# Altium schematic symbol library kmilo17pet-NSC_Interface.SchLib: 1433 symbols (part 8 of 51)
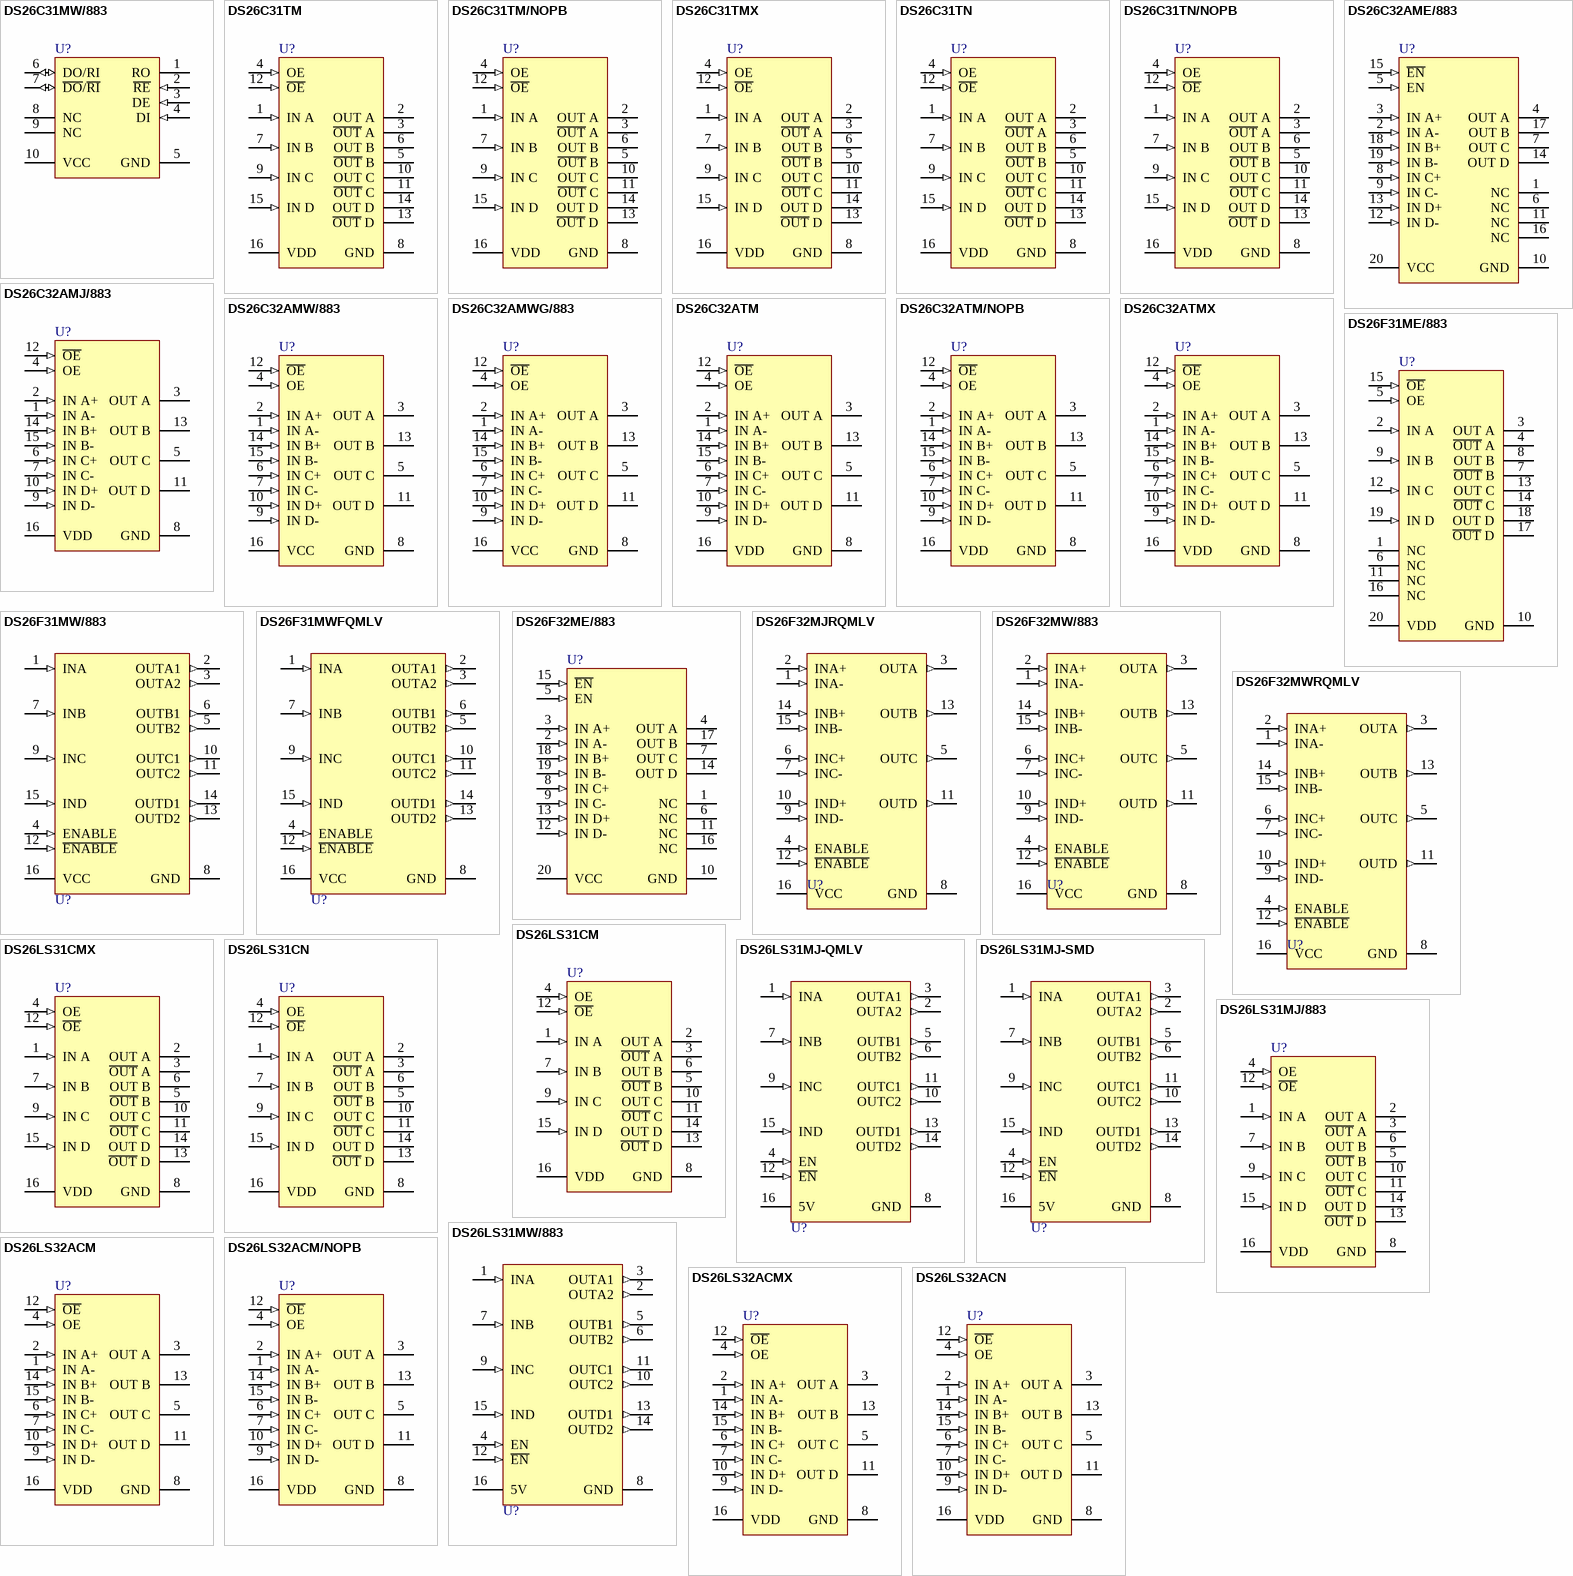
[diagram p131: symbols DS26C31MW/883 to DS26LS32ACN]

## DS26C31TMX
designator U?
CMOS Quad Tri-State Differential Line Drivers, 16-pin Narrow SOIC; PartNumber: DS26C31TMX; Manufacturer: National Semiconductor; PackageTopMarking: NSUZXYTTE#*DS26C31TM; PowerWise: N; CompType: Interface IC; High-Reliability: Y; DatasheetVersion: Jun-1998; PackageVersion: revJ, Aug-1995; PackageReference: M16A; PackageDescription: Molded Package, SO, .150in Wide, 16 Lead; RoHS: N; PinCount: 16; Code_JEDEC: MS-012-AC; Code_IPC: SOIC127P600-16; ComponentLink1Description: Manufacturer URL; ComponentLink1URL: http://www.national.com/; ComponentLink2Description: DS26C31T Datasheet; ComponentLink2URL: http://www.national.com/ds/DS/DS26C31T.pdf; ComponentLink3Description: DS26C31T Web Page; ComponentLink3URL: http://www.national.com/pf/DS/DS26C31T.html; ComponentLink4Description: M16A Package Page; ComponentLink4URL: http://www.national.com/packaging/folders/m16a.html
footprint M16A_N (SOIC, 16-Leads, Body 9.9x3.9mm, Pitch 1.27mm, IPC Medium Density)
footprint M16A_L (SOIC, 16-Leads, Body 9.9x3.9mm, Pitch 1.27mm, IPC High Density)
footprint M16A_M (SOIC, 16-Leads, Body 9.9x3.9mm, Pitch 1.27mm, IPC Low Density)
pins: 1 IN A (in), 2 OUT A (hiz), 3 ~{OUT} A (hiz), 4 OE (in), 5 ~{OUT} B (hiz), 6 OUT B (hiz), 7 IN B (in), 8 GND (power), 9 IN C (in), 10 OUT C (hiz), 11 ~{OUT} C (hiz), 12 ~{OE} (in), 13 ~{OUT} D (hiz), 14 OUT D (hiz), 15 IN D (in), 16 VDD (power)

## DS26C31TN
designator U?
CMOS Quad Tri-State Differential Line Driver, 16-pin MDIP; PartNumber: DS26C31TN; Manufacturer: National Semiconductor; PackageTopMarking: NSUZXYYTTE#*DS26C31TN; PowerWise: N; CompType: Interface IC; High-Reliability: Y; DatasheetVersion: Jun-1998; PackageVersion: revG, May-2006; PackageReference: N16E; PackageDescription: MDIP, .750 x .250 x .130in, 16 Lead, .100in Pitch; RoHS: N; PinCount: 16; Code_JEDEC: MS-001-BB; ComponentLink1Description: Manufacturer URL; ComponentLink1URL: http://www.national.com/; ComponentLink2Description: DS26C31T Datasheet; ComponentLink2URL: http://www.national.com/ds/DS/DS26C31T.pdf; ComponentLink3Description: DS26C31T Web Page; ComponentLink3URL: http://www.national.com/pf/DS/DS26C31T.html; ComponentLink4Description: N16E Package Page; ComponentLink4URL: http://www.national.com/packaging/folders/n16e.html
footprint N16E (DIP, 16-Leads, Row Spacing 7.62mm, Pitch 2.54mm, Body 19.3x6.35mm)
pins: 1 IN A (in), 2 OUT A (hiz), 3 ~{OUT} A (hiz), 4 OE (in), 5 ~{OUT} B (hiz), 6 OUT B (hiz), 7 IN B (in), 8 GND (power), 9 IN C (in), 10 OUT C (hiz), 11 ~{OUT} C (hiz), 12 ~{OE} (in), 13 ~{OUT} D (hiz), 14 OUT D (hiz), 15 IN D (in), 16 VDD (power)

## DS26C31TN/NOPB
designator U?
CMOS Quad Tri-State Differential Line Drivers, 16-pin MDIP, Pb-Free; PartNumber: DS26C31TN/NOPB; Manufacturer: National Semiconductor; PackageTopMarking: NSUZXYYTTE#*DS26C31TN; PowerWise: N; CompType: Interface IC; High-Reliability: Y; DatasheetVersion: Jun-1998; PackageVersion: revG, May-2006; PackageReference: N16E; PackageDescription: MDIP, .750 x .250 x .130in, 16 Lead, .100in Pitch; RoHS: Y; PinCount: 16; Code_JEDEC: MS-001-BB; ComponentLink1Description: Manufacturer URL; ComponentLink1URL: http://www.national.com/; ComponentLink2Description: DS26C31T Datasheet; ComponentLink2URL: http://www.national.com/ds/DS/DS26C31T.pdf; ComponentLink3Description: DS26C31T Web Page; ComponentLink3URL: http://www.national.com/pf/DS/DS26C31T.html; ComponentLink4Description: N16E Package Page; ComponentLink4URL: http://www.national.com/packaging/folders/n16e.html
footprint N16E (DIP, 16-Leads, Row Spacing 7.62mm, Pitch 2.54mm, Body 19.3x6.35mm)
pins: 1 IN A (in), 2 OUT A (hiz), 3 ~{OUT} A (hiz), 4 OE (in), 5 ~{OUT} B (hiz), 6 OUT B (hiz), 7 IN B (in), 8 GND (power), 9 IN C (in), 10 OUT C (hiz), 11 ~{OUT} C (hiz), 12 ~{OE} (in), 13 ~{OUT} D (hiz), 14 OUT D (hiz), 15 IN D (in), 16 VDD (power)

## DS26C32AME/883
designator U?
CMOS Quad Differential Line Receiver, 20-pin LCC; PartNumber: DS26C32AME/883; Manufacturer: National Semiconductor; PackageTopMarking: NS Q*ZSSXXYYA*DS26C32AME*/883 5962-*9164001M2A; PowerWise: N; CompType: Interface IC; High-Reliability: Y; DatasheetVersion: Jun-1998; PackageVersion: revF, May-2004; PackageReference: E20A; PackageDescription: Leadless Chip Carrier, Type C, 20 Terminal; RoHS: N; PinCount: 20; Code_JEDEC: MS-004-CB; ComponentLink1Description: Manufacturer URL; ComponentLink1URL: http://www.national.com/; ComponentLink2Description: DS26C32AM Datasheet; ComponentLink2URL: http://www.national.com/ds/DS/DS26C32AMQML.pdf; ComponentLink3Description: DS26C32AM Web Page; ComponentLink3URL: http://www.national.com/pf/DS/DS26C32AM.html; ComponentLink4Description: E20A Package Page; ComponentLink4URL: http://www.national.com/packaging/folders/e20a.html
footprint E20A_N (Leadless Chip Carrier, 20-Leads, Body 8.9x8.9mm, Pitch 1.27mm, IPC Medium Density)
footprint E20A_L (Leadless Chip Carrier, 20-Leads, Body 8.9x8.9mm, Pitch 1.27mm, IPC High Density)
footprint E20A_M (Leadless Chip Carrier, 20-Leads, Body 8.9x8.9mm, Pitch 1.27mm, IPC Low Density)
pins: 1 NC, 2 IN A- (in), 3 IN A+ (in), 4 OUT A (hiz), 5 EN (in), 6 NC, 7 OUT C (hiz), 8 IN C+ (in), 9 IN C- (in), 10 GND (power), 11 NC, 12 IN D- (in), 13 IN D+ (in), 14 OUT D (hiz), 15 ~{EN} (in), 16 NC, 17 OUT B (hiz), 18 IN B+ (in), 19 IN B- (in), 20 VCC (power)

## DS26C32AMJ/883
designator U?
CMOS Quad Differential Line Receiver, 16-pin CerDIP; PartNumber: DS26C32AMJ/883; Manufacturer: National Semiconductor; PackageTopMarking: NSZSSXXYYA*DS26C32AMJ/883 Q*5962-9164001MEA; PowerWise: N; CompType: Interface IC; High-Reliability: Y; DatasheetVersion: Jun-1998; PackageVersion: revL, Sep-1993; PackageReference: J16A; PackageDescription: Cerdip (J), 16 Lead; RoHS: N; PinCount: 16; ComponentLink1Description: Manufacturer URL; ComponentLink1URL: http://www.national.com/; ComponentLink2Description: DS26C32AM Datasheet; ComponentLink2URL: http://www.national.com/ds/DS/DS26C32AMQML.pdf; ComponentLink3Description: DS26C32AM Web Page; ComponentLink3URL: http://www.national.com/pf/DS/DS26C32AM.html; ComponentLink4Description: J16A Package Page; ComponentLink4URL: http://www.national.com/packaging/folders/j16a.html
footprint J16A (DIP, 16-Leads, Row Spacing 7.62mm, Pitch 2.54mm, Body 19.56x6.73mm)
pins: 1 IN A- (in), 2 IN A+ (in), 3 OUT A (hiz), 4 OE (in), 5 OUT C (hiz), 6 IN C+ (in), 7 IN C- (in), 8 GND (power), 9 IN D- (in), 10 IN D+ (in), 11 OUT D (hiz), 12 ~{OE} (in), 13 OUT B (hiz), 14 IN B+ (in), 15 IN B- (in), 16 VDD (power)

## DS26C32AMW/883
designator U?
CMOS Quad Differential Line Receiver, 16-pin CerPACK; PartNumber: DS26C32AMW/883; Manufacturer: National Semiconductor; PackageTopMarking: NSZSSXXYYA*DS26C32AMW*/883 Q 5962-*9164001MFA; PowerWise: N; CompType: Interface IC; High-Reliability: Y; DatasheetVersion: Jun-1998; PackageVersion: revT, Jul-2005; PackageReference: W16A; PackageDescription: Cerpack, .390 x .250 x .074in Body, 16 Lead, .050in Pitch; RoHS: N; PinCount: 16; Code_JEDEC: MO-092-AC; ComponentLink1Description: Manufacturer URL; ComponentLink1URL: http://www.national.com/; ComponentLink2Description: DS26C32AM Datasheet; ComponentLink2URL: http://www.national.com/ds/DS/DS26C32AMQML.pdf; ComponentLink3Description: DS26C32AM Web Page; ComponentLink3URL: http://www.national.com/pf/DS/DS26C32AM.html; ComponentLink4Description: W16A Package Page; ComponentLink4URL: http://www.national.com/packaging/folders/w16a.html
footprint W16A (DFP; 16 Leads; Body 9.9 x 7.6 mm (LxW max); Pitch 1.27 mm)
pins: 1 IN A- (in), 2 IN A+ (in), 3 OUT A (hiz), 4 OE (in), 5 OUT C (hiz), 6 IN C+ (in), 7 IN C- (in), 8 GND (power), 9 IN D- (in), 10 IN D+ (in), 11 OUT D (hiz), 12 ~{OE} (in), 13 OUT B (hiz), 14 IN B+ (in), 15 IN B- (in), 16 VCC (power)

## DS26C32AMWG/883
designator U?
CMOS Quad Differential Line Receiver, 16-pin CerPACK; PartNumber: DS26C32AMWG/883; Manufacturer: National Semiconductor; PackageTopMarking: NSZSSXXYYA*DS26C32AMWG/*883 Q 5962*9164001MXA; PowerWise: N; CompType: Interface IC; High-Reliability: Y; DatasheetVersion: Jun-1998; PackageVersion: revE, Jul-2007; PackageReference: WG16A; PackageDescription: Cerpack, .390 x .250 x .070in, 16 Lead, .050in Pitch, Gull Wing; RoHS: N; PinCount: 16; ComponentLink1Description: Manufacturer URL; ComponentLink1URL: http://www.national.com/; ComponentLink2Description: DS26C32AM Datasheet; ComponentLink2URL: http://www.national.com/ds/DS/DS26C32AMQML.pdf; ComponentLink3Description: DS26C32AM Web Page; ComponentLink3URL: http://www.national.com/pf/DS/DS26C32AM.html; ComponentLink4Description: WG16A Package Page; ComponentLink4URL: http://www.national.com/packaging/folders/wg16a.html
footprint WG16A_N (CERPACK, 16-Leads, Body 9.9x6.5mm, Pitch 1.27mm, IPC Medium Density)
footprint WG16A_L (CERPACK, 16-Leads, Body 9.9x6.5mm, Pitch 1.27mm, IPC High Density)
footprint WG16A_M (CERPACK, 16-Leads, Body 9.9x6.5mm, Pitch 1.27mm, IPC Low Density)
pins: 1 IN A- (in), 2 IN A+ (in), 3 OUT A (hiz), 4 OE (in), 5 OUT C (hiz), 6 IN C+ (in), 7 IN C- (in), 8 GND (power), 9 IN D- (in), 10 IN D+ (in), 11 OUT D (hiz), 12 ~{OE} (in), 13 OUT B (hiz), 14 IN B+ (in), 15 IN B- (in), 16 VCC (power)

## DS26C32ATM
designator U?
CMOS Quad Differential Line Receiver, 16-pin Narrow SOIC; PartNumber: DS26C32ATM; Manufacturer: National Semiconductor; PackageTopMarking: NSUZXYTTE#*DS26C32ATM; PowerWise: N; CompType: Interface IC; High-Reliability: Y; DatasheetVersion: Jun-1998; PackageVersion: revJ, Aug-1995; PackageReference: M16A; PackageDescription: Molded Package, SO, .150in Wide, 16 Lead; RoHS: N; PinCount: 16; Code_JEDEC: MS-012-AC; Code_IPC: SOIC127P600-16; ComponentLink1Description: Manufacturer URL; ComponentLink1URL: http://www.national.com/; ComponentLink2Description: DS26C32AT Datasheet; ComponentLink2URL: http://www.national.com/ds/DS/DS26C32AT.pdf; ComponentLink3Description: DS26C32AT Web Page; ComponentLink3URL: http://www.national.com/pf/DS/DS26C32AT.html; ComponentLink4Description: M16A Package Page; ComponentLink4URL: http://www.national.com/packaging/folders/m16a.html
footprint M16A_N (SOIC, 16-Leads, Body 9.9x3.9mm, Pitch 1.27mm, IPC Medium Density)
footprint M16A_L (SOIC, 16-Leads, Body 9.9x3.9mm, Pitch 1.27mm, IPC High Density)
footprint M16A_M (SOIC, 16-Leads, Body 9.9x3.9mm, Pitch 1.27mm, IPC Low Density)
pins: 1 IN A- (in), 2 IN A+ (in), 3 OUT A (hiz), 4 OE (in), 5 OUT C (hiz), 6 IN C+ (in), 7 IN C- (in), 8 GND (power), 9 IN D- (in), 10 IN D+ (in), 11 OUT D (hiz), 12 ~{OE} (in), 13 OUT B (hiz), 14 IN B+ (in), 15 IN B- (in), 16 VDD (power)

## DS26C32ATM/NOPB
designator U?
CMOS Quad Differential Line Receivers, 16-pin Narrow SOIC, Pb-Free; PartNumber: DS26C32ATM/NOPB; Manufacturer: National Semiconductor; PackageTopMarking: NSUZXYTTE#*DS26C32ATM; PowerWise: N; CompType: Interface IC; High-Reliability: Y; DatasheetVersion: Jun-1998; PackageVersion: revJ, Aug-1995; PackageReference: M16A; PackageDescription: Molded Package, SO, .150in Wide, 16 Lead; RoHS: Y; PinCount: 16; Code_JEDEC: MS-012-AC; Code_IPC: SOIC127P600-16; ComponentLink1Description: Manufacturer URL; ComponentLink1URL: http://www.national.com/; ComponentLink2Description: DS26C32AT Datasheet; ComponentLink2URL: http://www.national.com/ds/DS/DS26C32AT.pdf; ComponentLink3Description: DS26C32AT Web Page; ComponentLink3URL: http://www.national.com/pf/DS/DS26C32AT.html; ComponentLink4Description: M16A Package Page; ComponentLink4URL: http://www.national.com/packaging/folders/m16a.html
footprint M16A_N (SOIC, 16-Leads, Body 9.9x3.9mm, Pitch 1.27mm, IPC Medium Density)
footprint M16A_L (SOIC, 16-Leads, Body 9.9x3.9mm, Pitch 1.27mm, IPC High Density)
footprint M16A_M (SOIC, 16-Leads, Body 9.9x3.9mm, Pitch 1.27mm, IPC Low Density)
pins: 1 IN A- (in), 2 IN A+ (in), 3 OUT A (hiz), 4 OE (in), 5 OUT C (hiz), 6 IN C+ (in), 7 IN C- (in), 8 GND (power), 9 IN D- (in), 10 IN D+ (in), 11 OUT D (hiz), 12 ~{OE} (in), 13 OUT B (hiz), 14 IN B+ (in), 15 IN B- (in), 16 VDD (power)

## DS26C32ATMX
designator U?
CMOS Quad Differential Line Receivers, 16-pin Narrow SOIC; PartNumber: DS26C32ATMX; Manufacturer: National Semiconductor; PackageTopMarking: NSUZXYTTE#*DS26C32ATM; PowerWise: N; CompType: Interface IC; High-Reliability: Y; DatasheetVersion: Jun-1998; PackageVersion: revJ, Aug-1995; PackageReference: M16A; PackageDescription: Molded Package, SO, .150in Wide, 16 Lead; RoHS: N; PinCount: 16; Code_JEDEC: MS-012-AC; Code_IPC: SOIC127P600-16; ComponentLink1Description: Manufacturer URL; ComponentLink1URL: http://www.national.com/; ComponentLink2Description: DS26C32AT Datasheet; ComponentLink2URL: http://www.national.com/ds/DS/DS26C32AT.pdf; ComponentLink3Description: DS26C32AT Web Page; ComponentLink3URL: http://www.national.com/pf/DS/DS26C32AT.html; ComponentLink4Description: M16A Package Page; ComponentLink4URL: http://www.national.com/packaging/folders/m16a.html
footprint M16A_N (SOIC, 16-Leads, Body 9.9x3.9mm, Pitch 1.27mm, IPC Medium Density)
footprint M16A_L (SOIC, 16-Leads, Body 9.9x3.9mm, Pitch 1.27mm, IPC High Density)
footprint M16A_M (SOIC, 16-Leads, Body 9.9x3.9mm, Pitch 1.27mm, IPC Low Density)
pins: 1 IN A- (in), 2 IN A+ (in), 3 OUT A (hiz), 4 OE (in), 5 OUT C (hiz), 6 IN C+ (in), 7 IN C- (in), 8 GND (power), 9 IN D- (in), 10 IN D+ (in), 11 OUT D (hiz), 12 ~{OE} (in), 13 OUT B (hiz), 14 IN B+ (in), 15 IN B- (in), 16 VDD (power)

## DS26F31ME/883
designator U?
Quad High Speed Differential Line Driver, 20-pin LCC; PartNumber: DS26F31ME/883; Manufacturer: National Semiconductor; PackageTopMarking: NS*ZSSXXYYA*DS26F31ME/*883 Q 5962-*7802302M2A; PowerWise: N; CompType: Interface IC; High-Reliability: Y; DatasheetVersion: May-1999; PackageVersion: revF, May-2004; PackageReference: E20A; PackageDescription: Leadless Chip Carrier, Type C, 20 Terminal; RoHS: N; PinCount: 20; Code_JEDEC: MS-004-CB; ComponentLink1Description: Manufacturer URL; ComponentLink1URL: http://www.national.com/; ComponentLink2Description: DS26F31M Datasheet; ComponentLink2URL: http://www.national.com/ds/DS/DS26F31MQML.pdf; ComponentLink3Description: DS26F31M Web Page; ComponentLink3URL: http://www.national.com/pf/DS/DS26F31M.html; ComponentLink4Description: E20A Package Page; ComponentLink4URL: http://www.national.com/packaging/folders/e20a.html
footprint E20A_N (Leadless Chip Carrier, 20-Leads, Body 8.9x8.9mm, Pitch 1.27mm, IPC Medium Density)
footprint E20A_L (Leadless Chip Carrier, 20-Leads, Body 8.9x8.9mm, Pitch 1.27mm, IPC High Density)
footprint E20A_M (Leadless Chip Carrier, 20-Leads, Body 8.9x8.9mm, Pitch 1.27mm, IPC Low Density)
pins: 1 NC, 2 IN A (in), 3 OUT A (hiz), 4 ~{OUT} A (hiz), 5 OE (in), 6 NC, 7 ~{OUT} B (hiz), 8 OUT B (hiz), 9 IN B (in), 10 GND (power), 11 NC, 12 IN C (in), 13 OUT C (hiz), 14 ~{OUT} C (hiz), 15 ~{OE} (in), 16 NC, 17 ~{OUT} D (hiz), 18 OUT D (hiz), 19 IN D (in), 20 VDD (power)

## DS26F31MW/883
designator U?
Quad High Speed Differential Line Driver, 16-pin CerPACK; PartNumber: DS26F31MW/883; Manufacturer: National Semiconductor; PackageTopMarking: NSZSSXXYYA*DS26F31MW*/883 5962-*7802302MFA*Q; PowerWise: N; CompType: Interface IC; High-Reliability: Y; DatasheetVersion: May-1999; PackageVersion: revT, Jul-2005; PackageReference: W16A; PackageDescription: Cerpack, .390 x .250 x .074in Body, 16 Lead, .050in Pitch; RoHS: N; PinCount: 16; Code_JEDEC: MO-092-AC; ComponentLink1Description: Manufacturer URL; ComponentLink1URL: http://www.national.com/; ComponentLink2Description: DS26F31M Datasheet; ComponentLink2URL: http://www.national.com/ds/DS/DS26F31MQML.pdf; ComponentLink3Description: DS26F31M Web Page; ComponentLink3URL: http://www.national.com/pf/DS/DS26F31M.html; ComponentLink4Description: W16A Package Page; ComponentLink4URL: http://www.national.com/packaging/folders/w16a.html
footprint W16A (DFP; 16 Leads; Body 9.9 x 7.6 mm (LxW max); Pitch 1.27 mm)
pins: 1 INA (in), 2 OUTA1 (out), 3 OUTA2 (out), 4 ENABLE (in), 5 OUTB2 (out), 6 OUTB1 (out), 7 INB (in), 8 GND (power), 9 INC (in), 10 OUTC1 (out), 11 OUTC2 (out), 12 ~{ENABLE} (in), 13 OUTD2 (out), 14 OUTD1 (out), 15 IND (in), 16 VCC (power)

## DS26F31MWFQMLV
designator U?
Quad High Speed Differential Line Driver, 16-pin CerPACK; PartNumber: DS26F31MWFQMLV; Manufacturer: National Semiconductor; PackageTopMarking: NSZSSXXYYA*DS26F31MWF*QV Q 5962F*7802302VFA; PowerWise: N; CompType: Interface IC; High-Reliability: Y; DatasheetVersion: May-1999; PackageVersion: revT, Jul-2005; PackageReference: W16A; PackageDescription: Cerpack, .390 x .250 x .074in Body, 16 Lead, .050in Pitch; RoHS: N; PinCount: 16; Code_JEDEC: MO-092-AC; ComponentLink1Description: Manufacturer URL; ComponentLink1URL: http://www.national.com/; ComponentLink2Description: DS26F31M Datasheet; ComponentLink2URL: http://www.national.com/ds/DS/DS26F31MQML.pdf; ComponentLink3Description: DS26F31M Web Page; ComponentLink3URL: http://www.national.com/pf/DS/DS26F31M.html; ComponentLink4Description: W16A Package Page; ComponentLink4URL: http://www.national.com/packaging/folders/w16a.html
footprint W16A (DFP; 16 Leads; Body 9.9 x 7.6 mm (LxW max); Pitch 1.27 mm)
pins: 1 INA (in), 2 OUTA1 (out), 3 OUTA2 (out), 4 ENABLE (in), 5 OUTB2 (out), 6 OUTB1 (out), 7 INB (in), 8 GND (power), 9 INC (in), 10 OUTC1 (out), 11 OUTC2 (out), 12 ~{ENABLE} (in), 13 OUTD2 (out), 14 OUTD1 (out), 15 IND (in), 16 VCC (power)

## DS26F32ME/883
designator U?
Quad Differential Line Receiver, 20-pin LCC; PartNumber: DS26F32ME/883; Manufacturer: National Semiconductor; PackageTopMarking: NS*ZSSXXYYA*DS26F32ME/*883 Q 5962-*7802005M2A; PowerWise: N; CompType: Interface IC; High-Reliability: Y; DatasheetVersion: May-1999; PackageVersion: revF, May-2004; PackageReference: E20A; PackageDescription: Leadless Chip Carrier, Type C, 20 Terminal; RoHS: N; PinCount: 20; Code_JEDEC: MS-004-CB; ComponentLink1Description: Manufacturer URL; ComponentLink1URL: http://www.national.com/; ComponentLink2Description: DS26F32M Datasheet; ComponentLink2URL: http://www.national.com/ds/DS/DS26F32MQML.pdf; ComponentLink3Description: DS26F32M Web Page; ComponentLink3URL: http://www.national.com/pf/DS/DS26F32M.html; ComponentLink4Description: E20A Package Page; ComponentLink4URL: http://www.national.com/packaging/folders/e20a.html
footprint E20A_N (Leadless Chip Carrier, 20-Leads, Body 8.9x8.9mm, Pitch 1.27mm, IPC Medium Density)
footprint E20A_L (Leadless Chip Carrier, 20-Leads, Body 8.9x8.9mm, Pitch 1.27mm, IPC High Density)
footprint E20A_M (Leadless Chip Carrier, 20-Leads, Body 8.9x8.9mm, Pitch 1.27mm, IPC Low Density)
pins: 1 NC, 2 IN A- (in), 3 IN A+ (in), 4 OUT A (hiz), 5 EN (in), 6 NC, 7 OUT C (hiz), 8 IN C+ (in), 9 IN C- (in), 10 GND (power), 11 NC, 12 IN D- (in), 13 IN D+ (in), 14 OUT D (hiz), 15 ~{EN} (in), 16 NC, 17 OUT B (hiz), 18 IN B+ (in), 19 IN B- (in), 20 VCC (power)

## DS26F32MJRQMLV
designator U?
Quad Differential Line Receiver, 16-pin CerDIP; PartNumber: DS26F32MJRQMLV; Manufacturer: National Semiconductor; PackageTopMarking: NSZSSXXYYA*DS26F32MJRQV Q*5962R7802005VEA; PowerWise: N; CompType: Interface IC; High-Reliability: Y; DatasheetVersion: May-1999; PackageVersion: revL, Sep-1993; PackageReference: J16A; PackageDescription: Cerdip (J), 16 Lead; RoHS: N; PinCount: 16; ComponentLink1Description: Manufacturer URL; ComponentLink1URL: http://www.national.com/; ComponentLink2Description: DS26F32M Datasheet; ComponentLink2URL: http://www.national.com/ds/DS/DS26F32MQML.pdf; ComponentLink3Description: DS26F32M Web Page; ComponentLink3URL: http://www.national.com/pf/DS/DS26F32M.html; ComponentLink4Description: J16A Package Page; ComponentLink4URL: http://www.national.com/packaging/folders/j16a.html
footprint J16A (DIP, 16-Leads, Row Spacing 7.62mm, Pitch 2.54mm, Body 19.56x6.73mm)
pins: 1 INA- (in), 2 INA+ (in), 3 OUTA (out), 4 ENABLE (in), 5 OUTC (out), 6 INC+ (in), 7 INC- (in), 8 GND (power), 9 IND- (in), 10 IND+ (in), 11 OUTD (out), 12 ~{ENABLE} (in), 13 OUTB (out), 14 INB+ (in), 15 INB- (in), 16 VCC (power)

## DS26F32MW/883
designator U?
Quad Differential Line Receiver, 16-pin CerPACK; PartNumber: DS26F32MW/883; Manufacturer: National Semiconductor; PackageTopMarking: NSZSSXXYYA*DS26F32MW*/883 5962-*7802005MFA*Q; PowerWise: N; CompType: Interface IC; High-Reliability: Y; DatasheetVersion: May-1999; PackageVersion: revT, Jul-2005; PackageReference: W16A; PackageDescription: Cerpack, .390 x .250 x .074in Body, 16 Lead, .050in Pitch; RoHS: N; PinCount: 16; Code_JEDEC: MO-092-AC; ComponentLink1Description: Manufacturer URL; ComponentLink1URL: http://www.national.com/; ComponentLink2Description: DS26F32M Datasheet; ComponentLink2URL: http://www.national.com/ds/DS/DS26F32MQML.pdf; ComponentLink3Description: DS26F32M Web Page; ComponentLink3URL: http://www.national.com/pf/DS/DS26F32M.html; ComponentLink4Description: W16A Package Page; ComponentLink4URL: http://www.national.com/packaging/folders/w16a.html
footprint W16A (DFP; 16 Leads; Body 9.9 x 7.6 mm (LxW max); Pitch 1.27 mm)
pins: 1 INA- (in), 2 INA+ (in), 3 OUTA (out), 4 ENABLE (in), 5 OUTC (out), 6 INC+ (in), 7 INC- (in), 8 GND (power), 9 IND- (in), 10 IND+ (in), 11 OUTD (out), 12 ~{ENABLE} (in), 13 OUTB (out), 14 INB+ (in), 15 INB- (in), 16 VCC (power)

## DS26F32MWRQMLV
designator U?
Quad Differential Line Receiver, 16-pin CerPACK; PartNumber: DS26F32MWRQMLV; Manufacturer: National Semiconductor; PackageTopMarking: NSZSSXXYYA*DS26F32MWR*QV Q 5962R*7802005VFA; PowerWise: N; CompType: Interface IC; High-Reliability: Y; DatasheetVersion: May-1999; PackageVersion: revT, Jul-2005; PackageReference: W16A; PackageDescription: Cerpack, .390 x .250 x .074in Body, 16 Lead, .050in Pitch; RoHS: N; PinCount: 16; Code_JEDEC: MO-092-AC; ComponentLink1Description: Manufacturer URL; ComponentLink1URL: http://www.national.com/; ComponentLink2Description: DS26F32M Datasheet; ComponentLink2URL: http://www.national.com/ds/DS/DS26F32MQML.pdf; ComponentLink3Description: DS26F32M Web Page; ComponentLink3URL: http://www.national.com/pf/DS/DS26F32M.html; ComponentLink4Description: W16A Package Page; ComponentLink4URL: http://www.national.com/packaging/folders/w16a.html
footprint W16A (DFP; 16 Leads; Body 9.9 x 7.6 mm (LxW max); Pitch 1.27 mm)
pins: 1 INA- (in), 2 INA+ (in), 3 OUTA (out), 4 ENABLE (in), 5 OUTC (out), 6 INC+ (in), 7 INC- (in), 8 GND (power), 9 IND- (in), 10 IND+ (in), 11 OUTD (out), 12 ~{ENABLE} (in), 13 OUTB (out), 14 INB+ (in), 15 INB- (in), 16 VCC (power)

## DS26LS31CM
designator U?
Quad High Speed Differential Line Driver, 16-pin Narrow SOIC; PartNumber: DS26LS31CM; Manufacturer: National Semiconductor; PackageTopMarking: NSUZXYTTE#*DS26LS31CM; PowerWise: N; CompType: Interface IC; High-Reliability: Y; DatasheetVersion: Jun-1998; PackageVersion: revJ, Aug-1995; PackageReference: M16A; PackageDescription: Molded Package, SO, .150in Wide, 16 Lead; RoHS: N; PinCount: 16; Code_JEDEC: MS-012-AC; Code_IPC: SOIC127P600-16; ComponentLink1Description: Manufacturer URL; ComponentLink1URL: http://www.national.com/; ComponentLink2Description: DS26LS31C Datasheet; ComponentLink2URL: http://www.national.com/ds/DS/DS26LS31C.pdf; ComponentLink3Description: DS26LS31C Web Page; ComponentLink3URL: http://www.national.com/pf/DS/DS26LS31C.html; ComponentLink4Description: M16A Package Page; ComponentLink4URL: http://www.national.com/packaging/folders/m16a.html
footprint M16A_N (SOIC, 16-Leads, Body 9.9x3.9mm, Pitch 1.27mm, IPC Medium Density)
footprint M16A_L (SOIC, 16-Leads, Body 9.9x3.9mm, Pitch 1.27mm, IPC High Density)
footprint M16A_M (SOIC, 16-Leads, Body 9.9x3.9mm, Pitch 1.27mm, IPC Low Density)
pins: 1 IN A (in), 2 OUT A (hiz), 3 ~{OUT} A (hiz), 4 OE (in), 5 ~{OUT} B (hiz), 6 OUT B (hiz), 7 IN B (in), 8 GND (power), 9 IN C (in), 10 OUT C (hiz), 11 ~{OUT} C (hiz), 12 ~{OE} (in), 13 ~{OUT} D (hiz), 14 OUT D (hiz), 15 IN D (in), 16 VDD (power)

## DS26LS31CMX
designator U?
Quad High Speed Differential Line Drivers, 16-pin Narrow SOIC; PartNumber: DS26LS31CMX; Manufacturer: National Semiconductor; PackageTopMarking: NSUZXYTTE#*DS26LS31CM; PowerWise: N; CompType: Interface IC; High-Reliability: Y; DatasheetVersion: Jun-1998; PackageVersion: revJ, Aug-1995; PackageReference: M16A; PackageDescription: Molded Package, SO, .150in Wide, 16 Lead; RoHS: N; PinCount: 16; Code_JEDEC: MS-012-AC; Code_IPC: SOIC127P600-16; ComponentLink1Description: Manufacturer URL; ComponentLink1URL: http://www.national.com/; ComponentLink2Description: DS26LS31C Datasheet; ComponentLink2URL: http://www.national.com/ds/DS/DS26LS31C.pdf; ComponentLink3Description: DS26LS31C Web Page; ComponentLink3URL: http://www.national.com/pf/DS/DS26LS31C.html; ComponentLink4Description: M16A Package Page; ComponentLink4URL: http://www.national.com/packaging/folders/m16a.html
footprint M16A_N (SOIC, 16-Leads, Body 9.9x3.9mm, Pitch 1.27mm, IPC Medium Density)
footprint M16A_L (SOIC, 16-Leads, Body 9.9x3.9mm, Pitch 1.27mm, IPC High Density)
footprint M16A_M (SOIC, 16-Leads, Body 9.9x3.9mm, Pitch 1.27mm, IPC Low Density)
pins: 1 IN A (in), 2 OUT A (hiz), 3 ~{OUT} A (hiz), 4 OE (in), 5 ~{OUT} B (hiz), 6 OUT B (hiz), 7 IN B (in), 8 GND (power), 9 IN C (in), 10 OUT C (hiz), 11 ~{OUT} C (hiz), 12 ~{OE} (in), 13 ~{OUT} D (hiz), 14 OUT D (hiz), 15 IN D (in), 16 VDD (power)

## DS26LS31CN
designator U?
Quad High Speed Differential Line Driver, 16-pin MDIP; PartNumber: DS26LS31CN; Manufacturer: National Semiconductor; PackageTopMarking: NSUZXYYTTE#*DS26LS31CN*AM26LS31PC; PowerWise: N; CompType: Interface IC; High-Reliability: Y; DatasheetVersion: Jun-1998; PackageVersion: revG, May-2006; PackageReference: N16E; PackageDescription: MDIP, .750 x .250 x .130in, 16 Lead, .100in Pitch; RoHS: N; PinCount: 16; Code_JEDEC: MS-001-BB; ComponentLink1Description: Manufacturer URL; ComponentLink1URL: http://www.national.com/; ComponentLink2Description: DS26LS31C Datasheet; ComponentLink2URL: http://www.national.com/ds/DS/DS26LS31C.pdf; ComponentLink3Description: DS26LS31C Web Page; ComponentLink3URL: http://www.national.com/pf/DS/DS26LS31C.html; ComponentLink4Description: N16E Package Page; ComponentLink4URL: http://www.national.com/packaging/folders/n16e.html
footprint N16E (DIP, 16-Leads, Row Spacing 7.62mm, Pitch 2.54mm, Body 19.3x6.35mm)
pins: 1 IN A (in), 2 OUT A (hiz), 3 ~{OUT} A (hiz), 4 OE (in), 5 ~{OUT} B (hiz), 6 OUT B (hiz), 7 IN B (in), 8 GND (power), 9 IN C (in), 10 OUT C (hiz), 11 ~{OUT} C (hiz), 12 ~{OE} (in), 13 ~{OUT} D (hiz), 14 OUT D (hiz), 15 IN D (in), 16 VDD (power)

## DS26LS31MJ-QMLV
designator U?
Quad High Speed Differential Line Driver, 16-pin CerDIP; PartNumber: DS26LS31MJ-QMLV; Manufacturer: National Semiconductor; PackageTopMarking: NSZSSXXYYA*DS26LS31MJ-QV Q*5962-7802301VEA; PowerWise: N; CompType: Interface IC; High-Reliability: Y; DatasheetVersion: Mar-2006; PackageVersion: revL, Sep-1993; PackageReference: J16A; PackageDescription: Cerdip (J), 16 Lead; RoHS: N; PinCount: 16; ComponentLink1Description: Manufacturer URL; ComponentLink1URL: http://www.national.com/; ComponentLink2Description: DS26LS31M Datasheet; ComponentLink2URL: http://www.national.com/ds/DS/DS26LS31MQML.pdf; ComponentLink3Description: DS26LS31M Web Page; ComponentLink3URL: http://www.national.com/pf/DS/DS26LS31M.html; ComponentLink4Description: J16A Package Page; ComponentLink4URL: http://www.national.com/packaging/folders/j16a.html
footprint J16A (DIP, 16-Leads, Row Spacing 7.62mm, Pitch 2.54mm, Body 19.56x6.73mm)
pins: 1 INA (in), 2 OUTA2 (out), 3 OUTA1 (out), 4 EN (in), 5 OUTB1 (out), 6 OUTB2 (out), 7 INB (in), 8 GND (power), 9 INC (in), 10 OUTC2 (out), 11 OUTC1 (out), 12 ~{EN} (in), 13 OUTD1 (out), 14 OUTD2 (out), 15 IND (in), 16 5V (power)

## DS26LS31MJ-SMD
designator U?
Quad High Speed Differential Line Driver, 16-pin CerDIP; PartNumber: DS26LS31MJ-SMD; Manufacturer: National Semiconductor; PackageTopMarking: NSZSSXXYYA*5962-7802301MEA*27014 Q; PowerWise: N; CompType: Interface IC; High-Reliability: Y; DatasheetVersion: Mar-2006; PackageVersion: revL, Sep-1993; PackageReference: J16A; PackageDescription: Cerdip (J), 16 Lead; RoHS: N; PinCount: 16; ComponentLink1Description: Manufacturer URL; ComponentLink1URL: http://www.national.com/; ComponentLink2Description: DS26LS31M Datasheet; ComponentLink2URL: http://www.national.com/ds/DS/DS26LS31MQML.pdf; ComponentLink3Description: DS26LS31M Web Page; ComponentLink3URL: http://www.national.com/pf/DS/DS26LS31M.html; ComponentLink4Description: J16A Package Page; ComponentLink4URL: http://www.national.com/packaging/folders/j16a.html
footprint J16A (DIP, 16-Leads, Row Spacing 7.62mm, Pitch 2.54mm, Body 19.56x6.73mm)
pins: 1 INA (in), 2 OUTA2 (out), 3 OUTA1 (out), 4 EN (in), 5 OUTB1 (out), 6 OUTB2 (out), 7 INB (in), 8 GND (power), 9 INC (in), 10 OUTC2 (out), 11 OUTC1 (out), 12 ~{EN} (in), 13 OUTD1 (out), 14 OUTD2 (out), 15 IND (in), 16 5V (power)

## DS26LS31MJ/883
designator U?
Quad High Speed Differential Line Driver, 16-pin CerDIP; PartNumber: DS26LS31MJ/883; Manufacturer: National Semiconductor; PackageTopMarking: NSZSSXXYYA*DS26LS31MJ/883 Q; PowerWise: N; CompType: Interface IC; High-Reliability: Y; DatasheetVersion: Mar-2006; PackageVersion: revL, Sep-1993; PackageReference: J16A; PackageDescription: Cerdip (J), 16 Lead; RoHS: N; PinCount: 16; ComponentLink1Description: Manufacturer URL; ComponentLink1URL: http://www.national.com/; ComponentLink2Description: DS26LS31M Datasheet; ComponentLink2URL: http://www.national.com/ds/DS/DS26LS31MQML.pdf; ComponentLink3Description: DS26LS31M Web Page; ComponentLink3URL: http://www.national.com/pf/DS/DS26LS31M.html; ComponentLink4Description: J16A Package Page; ComponentLink4URL: http://www.national.com/packaging/folders/j16a.html
footprint J16A (DIP, 16-Leads, Row Spacing 7.62mm, Pitch 2.54mm, Body 19.56x6.73mm)
pins: 1 IN A (in), 2 OUT A (hiz), 3 ~{OUT} A (hiz), 4 OE (in), 5 ~{OUT} B (hiz), 6 OUT B (hiz), 7 IN B (in), 8 GND (power), 9 IN C (in), 10 OUT C (hiz), 11 ~{OUT} C (hiz), 12 ~{OE} (in), 13 ~{OUT} D (hiz), 14 OUT D (hiz), 15 IN D (in), 16 VDD (power)

## DS26LS31MW/883
designator U?
Quad High Speed Differential Line Driver, 16-pin CerPACK; PartNumber: DS26LS31MW/883; Manufacturer: National Semiconductor; PackageTopMarking: NSZSSXXYYA*DS26LS31MW*/883 Q; PowerWise: N; CompType: Interface IC; High-Reliability: Y; DatasheetVersion: Mar-2006; PackageVersion: revT, Jul-2005; PackageReference: W16A; PackageDescription: Cerpack, .390 x .250 x .074in Body, 16 Lead, .050in Pitch; RoHS: N; PinCount: 16; Code_JEDEC: MO-092-AC; ComponentLink1Description: Manufacturer URL; ComponentLink1URL: http://www.national.com/; ComponentLink2Description: DS26LS31M Datasheet; ComponentLink2URL: http://www.national.com/ds/DS/DS26LS31MQML.pdf; ComponentLink3Description: DS26LS31M Web Page; ComponentLink3URL: http://www.national.com/pf/DS/DS26LS31M.html; ComponentLink4Description: W16A Package Page; ComponentLink4URL: http://www.national.com/packaging/folders/w16a.html
footprint W16A (DFP; 16 Leads; Body 9.9 x 7.6 mm (LxW max); Pitch 1.27 mm)
pins: 1 INA (in), 2 OUTA2 (out), 3 OUTA1 (out), 4 EN (in), 5 OUTB1 (out), 6 OUTB2 (out), 7 INB (in), 8 GND (power), 9 INC (in), 10 OUTC2 (out), 11 OUTC1 (out), 12 ~{EN} (in), 13 OUTD1 (out), 14 OUTD2 (out), 15 IND (in), 16 5V (power)

## DS26LS32ACM
designator U?
Quad Differential Line Receiver, 16-pin Narrow SOIC; PartNumber: DS26LS32ACM; Manufacturer: National Semiconductor; PackageTopMarking: NSUZXYTTE#*DS26LS32*ACM; PowerWise: N; CompType: Interface IC; High-Reliability: Y; DatasheetVersion: May-1999; PackageVersion: revJ, Aug-1995; PackageReference: M16A; PackageDescription: Molded Package, SO, .150in Wide, 16 Lead; RoHS: N; PinCount: 16; Code_JEDEC: MS-012-AC; Code_IPC: SOIC127P600-16; ComponentLink1Description: Manufacturer URL; ComponentLink1URL: http://www.national.com/; ComponentLink2Description: DS26LS32AC Datasheet; ComponentLink2URL: http://www.national.com/ds/DS/DS26LS32AC.pdf; ComponentLink3Description: DS26LS32AC Web Page; ComponentLink3URL: http://www.national.com/pf/DS/DS26LS32AC.html; ComponentLink4Description: M16A Package Page; ComponentLink4URL: http://www.national.com/packaging/folders/m16a.html
footprint M16A_N (SOIC, 16-Leads, Body 9.9x3.9mm, Pitch 1.27mm, IPC Medium Density)
footprint M16A_L (SOIC, 16-Leads, Body 9.9x3.9mm, Pitch 1.27mm, IPC High Density)
footprint M16A_M (SOIC, 16-Leads, Body 9.9x3.9mm, Pitch 1.27mm, IPC Low Density)
pins: 1 IN A- (in), 2 IN A+ (in), 3 OUT A (hiz), 4 OE (in), 5 OUT C (hiz), 6 IN C+ (in), 7 IN C- (in), 8 GND (power), 9 IN D- (in), 10 IN D+ (in), 11 OUT D (hiz), 12 ~{OE} (in), 13 OUT B (hiz), 14 IN B+ (in), 15 IN B- (in), 16 VDD (power)

## DS26LS32ACM/NOPB
designator U?
Quad Differential Line Receivers, 16-pin Narrow SOIC, Pb-Free; PartNumber: DS26LS32ACM/NOPB; Manufacturer: National Semiconductor; PackageTopMarking: NSUZXYTTE#*DS26LS32*ACM; PowerWise: N; CompType: Interface IC; High-Reliability: Y; DatasheetVersion: May-1999; PackageVersion: revJ, Aug-1995; PackageReference: M16A; PackageDescription: Molded Package, SO, .150in Wide, 16 Lead; RoHS: Y; PinCount: 16; Code_JEDEC: MS-012-AC; Code_IPC: SOIC127P600-16; ComponentLink1Description: Manufacturer URL; ComponentLink1URL: http://www.national.com/; ComponentLink2Description: DS26LS32AC Datasheet; ComponentLink2URL: http://www.national.com/ds/DS/DS26LS32AC.pdf; ComponentLink3Description: DS26LS32AC Web Page; ComponentLink3URL: http://www.national.com/pf/DS/DS26LS32AC.html; ComponentLink4Description: M16A Package Page; ComponentLink4URL: http://www.national.com/packaging/folders/m16a.html
footprint M16A_N (SOIC, 16-Leads, Body 9.9x3.9mm, Pitch 1.27mm, IPC Medium Density)
footprint M16A_L (SOIC, 16-Leads, Body 9.9x3.9mm, Pitch 1.27mm, IPC High Density)
footprint M16A_M (SOIC, 16-Leads, Body 9.9x3.9mm, Pitch 1.27mm, IPC Low Density)
pins: 1 IN A- (in), 2 IN A+ (in), 3 OUT A (hiz), 4 OE (in), 5 OUT C (hiz), 6 IN C+ (in), 7 IN C- (in), 8 GND (power), 9 IN D- (in), 10 IN D+ (in), 11 OUT D (hiz), 12 ~{OE} (in), 13 OUT B (hiz), 14 IN B+ (in), 15 IN B- (in), 16 VDD (power)

## DS26LS32ACMX
designator U?
Quad Differential Line Receivers, 16-pin Narrow SOIC; PartNumber: DS26LS32ACMX; Manufacturer: National Semiconductor; PackageTopMarking: NSUZXYTTE#*DS26LS32*ACM; PowerWise: N; CompType: Interface IC; High-Reliability: Y; DatasheetVersion: May-1999; PackageVersion: revJ, Aug-1995; PackageReference: M16A; PackageDescription: Molded Package, SO, .150in Wide, 16 Lead; RoHS: N; PinCount: 16; Code_JEDEC: MS-012-AC; Code_IPC: SOIC127P600-16; ComponentLink1Description: Manufacturer URL; ComponentLink1URL: http://www.national.com/; ComponentLink2Description: DS26LS32AC Datasheet; ComponentLink2URL: http://www.national.com/ds/DS/DS26LS32AC.pdf; ComponentLink3Description: DS26LS32AC Web Page; ComponentLink3URL: http://www.national.com/pf/DS/DS26LS32AC.html; ComponentLink4Description: M16A Package Page; ComponentLink4URL: http://www.national.com/packaging/folders/m16a.html
footprint M16A_N (SOIC, 16-Leads, Body 9.9x3.9mm, Pitch 1.27mm, IPC Medium Density)
footprint M16A_L (SOIC, 16-Leads, Body 9.9x3.9mm, Pitch 1.27mm, IPC High Density)
footprint M16A_M (SOIC, 16-Leads, Body 9.9x3.9mm, Pitch 1.27mm, IPC Low Density)
pins: 1 IN A- (in), 2 IN A+ (in), 3 OUT A (hiz), 4 OE (in), 5 OUT C (hiz), 6 IN C+ (in), 7 IN C- (in), 8 GND (power), 9 IN D- (in), 10 IN D+ (in), 11 OUT D (hiz), 12 ~{OE} (in), 13 OUT B (hiz), 14 IN B+ (in), 15 IN B- (in), 16 VDD (power)

## DS26LS32ACN
designator U?
Quad Differential Line Receiver, 16-pin MDIP; PartNumber: DS26LS32ACN; Manufacturer: National Semiconductor; PackageTopMarking: NSUZXYYTTE#*DS26LS32ACN; PowerWise: N; CompType: Interface IC; High-Reliability: Y; DatasheetVersion: May-1999; PackageVersion: revG, May-2006; PackageReference: N16E; PackageDescription: MDIP, .750 x .250 x .130in, 16 Lead, .100in Pitch; RoHS: N; PinCount: 16; Code_JEDEC: MS-001-BB; ComponentLink1Description: Manufacturer URL; ComponentLink1URL: http://www.national.com/; ComponentLink2Description: DS26LS32AC Datasheet; ComponentLink2URL: http://www.national.com/ds/DS/DS26LS32AC.pdf; ComponentLink3Description: DS26LS32AC Web Page; ComponentLink3URL: http://www.national.com/pf/DS/DS26LS32AC.html; ComponentLink4Description: N16E Package Page; ComponentLink4URL: http://www.national.com/packaging/folders/n16e.html
footprint N16E (DIP, 16-Leads, Row Spacing 7.62mm, Pitch 2.54mm, Body 19.3x6.35mm)
pins: 1 IN A- (in), 2 IN A+ (in), 3 OUT A (hiz), 4 OE (in), 5 OUT C (hiz), 6 IN C+ (in), 7 IN C- (in), 8 GND (power), 9 IN D- (in), 10 IN D+ (in), 11 OUT D (hiz), 12 ~{OE} (in), 13 OUT B (hiz), 14 IN B+ (in), 15 IN B- (in), 16 VDD (power)

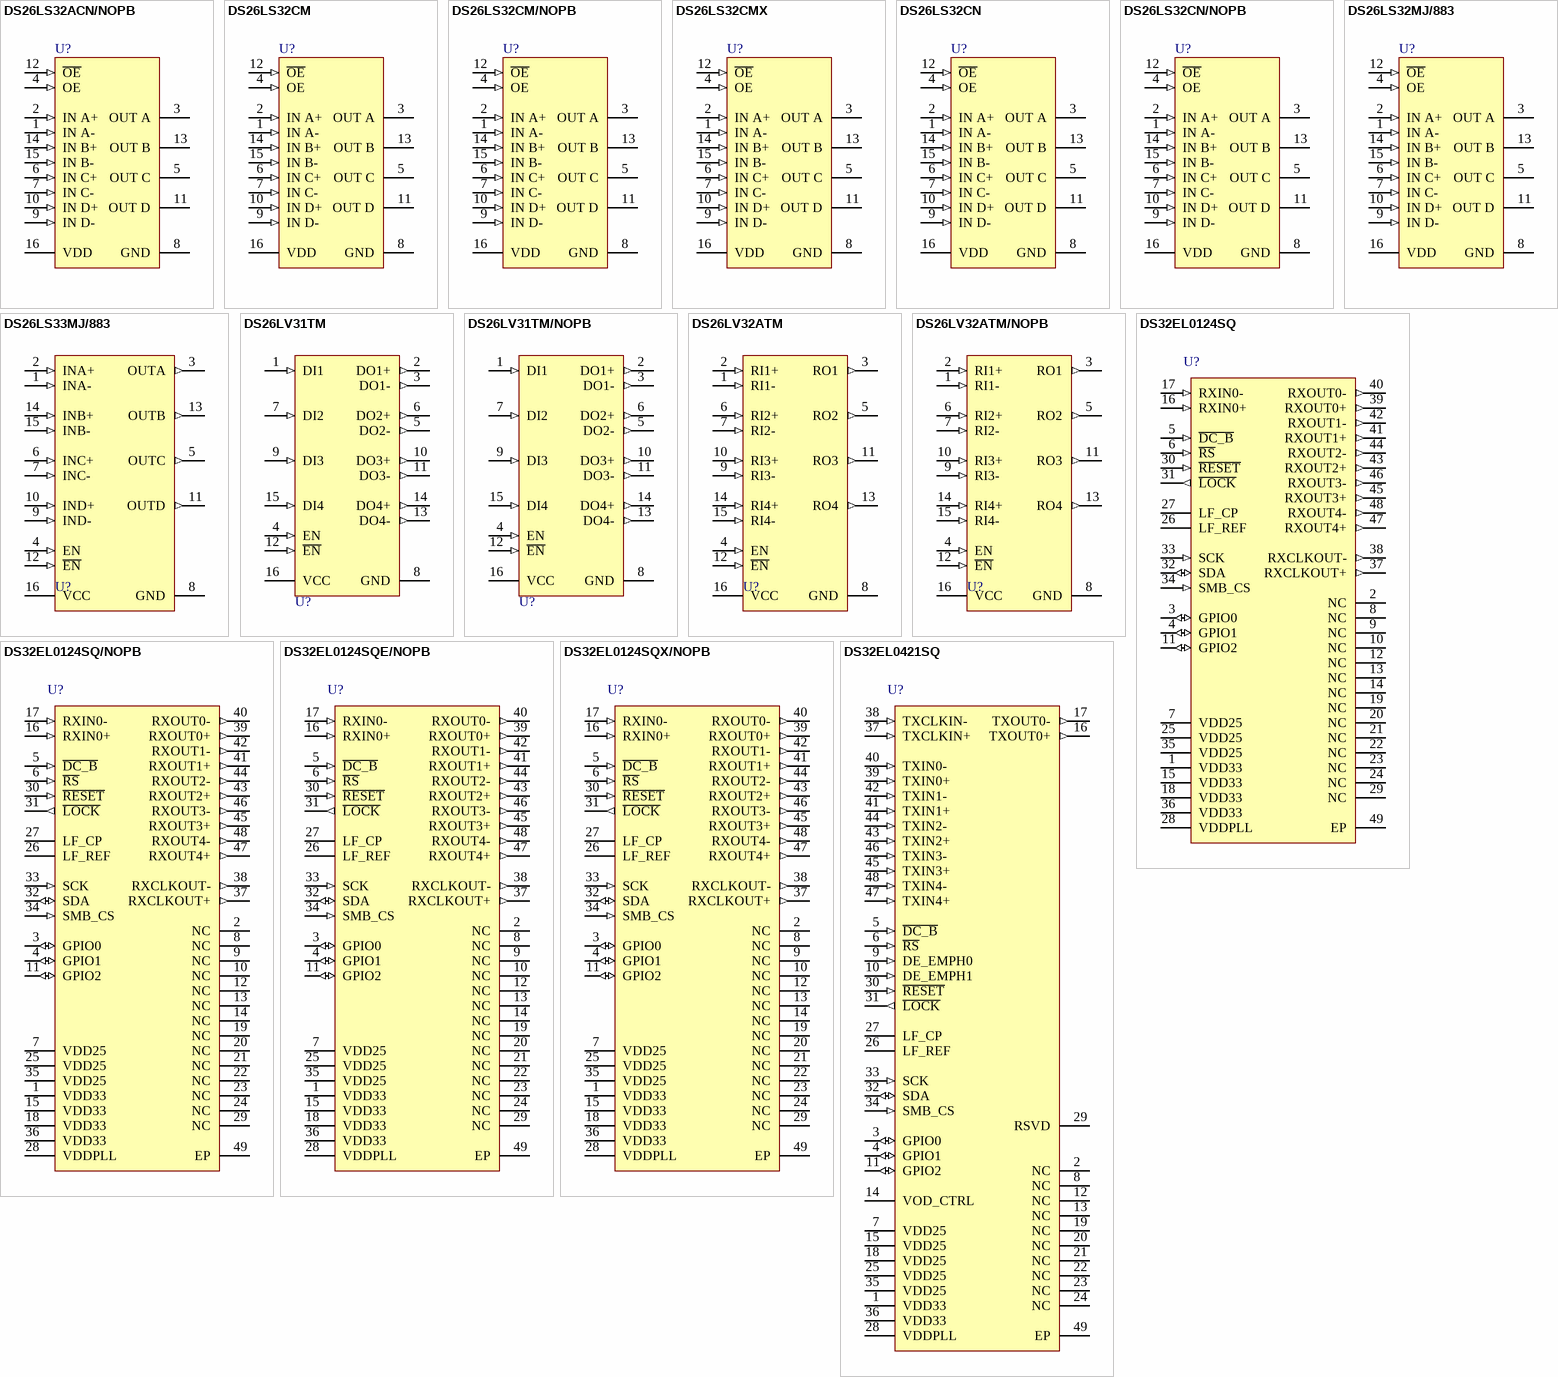
[diagram p22: symbols DS26LS32ACN/NOPB to DS32EL0421SQ]

## DS26LS32ACN/NOPB
designator U?
Quad Differential Line Receivers, 16-pin MDIP, Pb-Free; PartNumber: DS26LS32ACN/NOPB; Manufacturer: National Semiconductor; PackageTopMarking: NSUZXYYTTE#*DS26LS32ACN; PowerWise: N; CompType: Interface IC; High-Reliability: Y; DatasheetVersion: May-1999; PackageVersion: revG, May-2006; PackageReference: N16E; PackageDescription: MDIP, .750 x .250 x .130in, 16 Lead, .100in Pitch; RoHS: Y; PinCount: 16; Code_JEDEC: MS-001-BB; ComponentLink1Description: Manufacturer URL; ComponentLink1URL: http://www.national.com/; ComponentLink2Description: DS26LS32AC Datasheet; ComponentLink2URL: http://www.national.com/ds/DS/DS26LS32AC.pdf; ComponentLink3Description: DS26LS32AC Web Page; ComponentLink3URL: http://www.national.com/pf/DS/DS26LS32AC.html; ComponentLink4Description: N16E Package Page; ComponentLink4URL: http://www.national.com/packaging/folders/n16e.html
footprint N16E (DIP, 16-Leads, Row Spacing 7.62mm, Pitch 2.54mm, Body 19.3x6.35mm)
pins: 1 IN A- (in), 2 IN A+ (in), 3 OUT A (hiz), 4 OE (in), 5 OUT C (hiz), 6 IN C+ (in), 7 IN C- (in), 8 GND (power), 9 IN D- (in), 10 IN D+ (in), 11 OUT D (hiz), 12 ~{OE} (in), 13 OUT B (hiz), 14 IN B+ (in), 15 IN B- (in), 16 VDD (power)

## DS26LS32CM
designator U?
Quad Differential Line Receiver, 16-pin Narrow SOIC; PartNumber: DS26LS32CM; Manufacturer: National Semiconductor; PackageTopMarking: NSUZXYTTE#*DS26LS32CM; PowerWise: N; CompType: Interface IC; High-Reliability: Y; DatasheetVersion: May-1999; PackageVersion: revJ, Aug-1995; PackageReference: M16A; PackageDescription: Molded Package, SO, .150in Wide, 16 Lead; RoHS: N; PinCount: 16; Code_JEDEC: MS-012-AC; Code_IPC: SOIC127P600-16; ComponentLink1Description: Manufacturer URL; ComponentLink1URL: http://www.national.com/; ComponentLink2Description: DS26LS32C Datasheet; ComponentLink2URL: http://www.national.com/ds/DS/DS26LS32C.pdf; ComponentLink3Description: DS26LS32C Web Page; ComponentLink3URL: http://www.national.com/pf/DS/DS26LS32C.html; ComponentLink4Description: M16A Package Page; ComponentLink4URL: http://www.national.com/packaging/folders/m16a.html
footprint M16A_N (SOIC, 16-Leads, Body 9.9x3.9mm, Pitch 1.27mm, IPC Medium Density)
footprint M16A_L (SOIC, 16-Leads, Body 9.9x3.9mm, Pitch 1.27mm, IPC High Density)
footprint M16A_M (SOIC, 16-Leads, Body 9.9x3.9mm, Pitch 1.27mm, IPC Low Density)
pins: 1 IN A- (in), 2 IN A+ (in), 3 OUT A (hiz), 4 OE (in), 5 OUT C (hiz), 6 IN C+ (in), 7 IN C- (in), 8 GND (power), 9 IN D- (in), 10 IN D+ (in), 11 OUT D (hiz), 12 ~{OE} (in), 13 OUT B (hiz), 14 IN B+ (in), 15 IN B- (in), 16 VDD (power)

## DS26LS32CM/NOPB
designator U?
Quad Differential Line Receivers, 16-pin Narrow SOIC, Pb-Free; PartNumber: DS26LS32CM/NOPB; Manufacturer: National Semiconductor; PackageTopMarking: NSUZXYTTE#*DS26LS32CM; PowerWise: N; CompType: Interface IC; High-Reliability: Y; DatasheetVersion: May-1999; PackageVersion: revJ, Aug-1995; PackageReference: M16A; PackageDescription: Molded Package, SO, .150in Wide, 16 Lead; RoHS: Y; PinCount: 16; Code_JEDEC: MS-012-AC; Code_IPC: SOIC127P600-16; ComponentLink1Description: Manufacturer URL; ComponentLink1URL: http://www.national.com/; ComponentLink2Description: DS26LS32C Datasheet; ComponentLink2URL: http://www.national.com/ds/DS/DS26LS32C.pdf; ComponentLink3Description: DS26LS32C Web Page; ComponentLink3URL: http://www.national.com/pf/DS/DS26LS32C.html; ComponentLink4Description: M16A Package Page; ComponentLink4URL: http://www.national.com/packaging/folders/m16a.html
footprint M16A_N (SOIC, 16-Leads, Body 9.9x3.9mm, Pitch 1.27mm, IPC Medium Density)
footprint M16A_L (SOIC, 16-Leads, Body 9.9x3.9mm, Pitch 1.27mm, IPC High Density)
footprint M16A_M (SOIC, 16-Leads, Body 9.9x3.9mm, Pitch 1.27mm, IPC Low Density)
pins: 1 IN A- (in), 2 IN A+ (in), 3 OUT A (hiz), 4 OE (in), 5 OUT C (hiz), 6 IN C+ (in), 7 IN C- (in), 8 GND (power), 9 IN D- (in), 10 IN D+ (in), 11 OUT D (hiz), 12 ~{OE} (in), 13 OUT B (hiz), 14 IN B+ (in), 15 IN B- (in), 16 VDD (power)

## DS26LS32CMX
designator U?
Quad Differential Line Receivers, 16-pin Narrow SOIC; PartNumber: DS26LS32CMX; Manufacturer: National Semiconductor; PackageTopMarking: NSUZXYTTE#*DS26LS32CM; PowerWise: N; CompType: Interface IC; High-Reliability: Y; DatasheetVersion: May-1999; PackageVersion: revJ, Aug-1995; PackageReference: M16A; PackageDescription: Molded Package, SO, .150in Wide, 16 Lead; RoHS: N; PinCount: 16; Code_JEDEC: MS-012-AC; Code_IPC: SOIC127P600-16; ComponentLink1Description: Manufacturer URL; ComponentLink1URL: http://www.national.com/; ComponentLink2Description: DS26LS32C Datasheet; ComponentLink2URL: http://www.national.com/ds/DS/DS26LS32C.pdf; ComponentLink3Description: DS26LS32C Web Page; ComponentLink3URL: http://www.national.com/pf/DS/DS26LS32C.html; ComponentLink4Description: M16A Package Page; ComponentLink4URL: http://www.national.com/packaging/folders/m16a.html
footprint M16A_N (SOIC, 16-Leads, Body 9.9x3.9mm, Pitch 1.27mm, IPC Medium Density)
footprint M16A_L (SOIC, 16-Leads, Body 9.9x3.9mm, Pitch 1.27mm, IPC High Density)
footprint M16A_M (SOIC, 16-Leads, Body 9.9x3.9mm, Pitch 1.27mm, IPC Low Density)
pins: 1 IN A- (in), 2 IN A+ (in), 3 OUT A (hiz), 4 OE (in), 5 OUT C (hiz), 6 IN C+ (in), 7 IN C- (in), 8 GND (power), 9 IN D- (in), 10 IN D+ (in), 11 OUT D (hiz), 12 ~{OE} (in), 13 OUT B (hiz), 14 IN B+ (in), 15 IN B- (in), 16 VDD (power)

## DS26LS32CN
designator U?
Quad Differential Line Receiver, 16-pin MDIP; PartNumber: DS26LS32CN; Manufacturer: National Semiconductor; PackageTopMarking: NSUZXYYTTE#*DS26LS32CN; PowerWise: N; CompType: Interface IC; High-Reliability: Y; DatasheetVersion: May-1999; PackageVersion: revG, May-2006; PackageReference: N16E; PackageDescription: MDIP, .750 x .250 x .130in, 16 Lead, .100in Pitch; RoHS: N; PinCount: 16; Code_JEDEC: MS-001-BB; ComponentLink1Description: Manufacturer URL; ComponentLink1URL: http://www.national.com/; ComponentLink2Description: DS26LS32C Datasheet; ComponentLink2URL: http://www.national.com/ds/DS/DS26LS32C.pdf; ComponentLink3Description: DS26LS32C Web Page; ComponentLink3URL: http://www.national.com/pf/DS/DS26LS32C.html; ComponentLink4Description: N16E Package Page; ComponentLink4URL: http://www.national.com/packaging/folders/n16e.html
footprint N16E (DIP, 16-Leads, Row Spacing 7.62mm, Pitch 2.54mm, Body 19.3x6.35mm)
pins: 1 IN A- (in), 2 IN A+ (in), 3 OUT A (hiz), 4 OE (in), 5 OUT C (hiz), 6 IN C+ (in), 7 IN C- (in), 8 GND (power), 9 IN D- (in), 10 IN D+ (in), 11 OUT D (hiz), 12 ~{OE} (in), 13 OUT B (hiz), 14 IN B+ (in), 15 IN B- (in), 16 VDD (power)

## DS26LS32CN/NOPB
designator U?
Quad Differential Line Receivers, 16-pin MDIP, Pb-Free; PartNumber: DS26LS32CN/NOPB; Manufacturer: National Semiconductor; PackageTopMarking: NSUZXYYTTE#*DS26LS32CN; PowerWise: N; CompType: Interface IC; High-Reliability: Y; DatasheetVersion: May-1999; PackageVersion: revG, May-2006; PackageReference: N16E; PackageDescription: MDIP, .750 x .250 x .130in, 16 Lead, .100in Pitch; RoHS: Y; PinCount: 16; Code_JEDEC: MS-001-BB; ComponentLink1Description: Manufacturer URL; ComponentLink1URL: http://www.national.com/; ComponentLink2Description: DS26LS32C Datasheet; ComponentLink2URL: http://www.national.com/ds/DS/DS26LS32C.pdf; ComponentLink3Description: DS26LS32C Web Page; ComponentLink3URL: http://www.national.com/pf/DS/DS26LS32C.html; ComponentLink4Description: N16E Package Page; ComponentLink4URL: http://www.national.com/packaging/folders/n16e.html
footprint N16E (DIP, 16-Leads, Row Spacing 7.62mm, Pitch 2.54mm, Body 19.3x6.35mm)
pins: 1 IN A- (in), 2 IN A+ (in), 3 OUT A (hiz), 4 OE (in), 5 OUT C (hiz), 6 IN C+ (in), 7 IN C- (in), 8 GND (power), 9 IN D- (in), 10 IN D+ (in), 11 OUT D (hiz), 12 ~{OE} (in), 13 OUT B (hiz), 14 IN B+ (in), 15 IN B- (in), 16 VDD (power)

## DS26LS32MJ/883
designator U?
Quad Differential Line Receiver, 16-pin CerDIP; PartNumber: DS26LS32MJ/883; Manufacturer: National Semiconductor; PackageTopMarking: NSZSSXXYYA*5962-7802006QEA*DS26LS32MJ/883 Q; PowerWise: N; CompType: Interface IC; High-Reliability: Y; DatasheetVersion: May-1999; PackageVersion: revL, Sep-1993; PackageReference: J16A; PackageDescription: Cerdip (J), 16 Lead; RoHS: N; PinCount: 16; ComponentLink1Description: Manufacturer URL; ComponentLink1URL: http://www.national.com/; ComponentLink2Description: DS26LS32M Datasheet; ComponentLink2URL: http://www.national.com/ds/DS/DS26LS32MQML.pdf; ComponentLink3Description: DS26LS32M Web Page; ComponentLink3URL: http://www.national.com/pf/DS/DS26LS32M.html; ComponentLink4Description: J16A Package Page; ComponentLink4URL: http://www.national.com/packaging/folders/j16a.html
footprint J16A (DIP, 16-Leads, Row Spacing 7.62mm, Pitch 2.54mm, Body 19.56x6.73mm)
pins: 1 IN A- (in), 2 IN A+ (in), 3 OUT A (hiz), 4 OE (in), 5 OUT C (hiz), 6 IN C+ (in), 7 IN C- (in), 8 GND (power), 9 IN D- (in), 10 IN D+ (in), 11 OUT D (hiz), 12 ~{OE} (in), 13 OUT B (hiz), 14 IN B+ (in), 15 IN B- (in), 16 VDD (power)

## DS26LS33MJ/883
designator U?
Quad Differential Line Receiver, 16-pin CerDIP; PartNumber: DS26LS33MJ/883; Manufacturer: National Semiconductor; PackageTopMarking: NSZSSXXYYA*DS26LS33MJ/883 Q; PowerWise: N; CompType: Interface IC; High-Reliability: Y; DatasheetVersion: May-1999; PackageVersion: revL, Sep-1993; PackageReference: J16A; PackageDescription: Cerdip (J), 16 Lead; RoHS: N; PinCount: 16; ComponentLink1Description: Manufacturer URL; ComponentLink1URL: http://www.national.com/; ComponentLink2Description: DS26LS33M Datasheet; ComponentLink2URL: http://www.national.com/ds/DS/DS26LS33M.pdf; ComponentLink3Description: DS26LS33M Web Page; ComponentLink3URL: http://www.national.com/pf/DS/DS26LS33M.html; ComponentLink4Description: J16A Package Page; ComponentLink4URL: http://www.national.com/packaging/folders/j16a.html
footprint J16A (DIP, 16-Leads, Row Spacing 7.62mm, Pitch 2.54mm, Body 19.56x6.73mm)
pins: 1 INA- (in), 2 INA+ (in), 3 OUTA (out), 4 EN (in), 5 OUTC (out), 6 INC+ (in), 7 INC- (in), 8 GND (power), 9 IND- (in), 10 IND+ (in), 11 OUTD (out), 12 ~{EN} (in), 13 OUTB (out), 14 INB+ (in), 15 INB- (in), 16 VCC (power)

## DS26LV31TM
designator U?
3V Enhanced CMOS Quad Differential Line Driver, 16-pin Narrow SOIC; PartNumber: DS26LV31TM; Manufacturer: National Semiconductor; PackageTopMarking: NSUZXYTTE#*DS26LV31*TM; PowerWise: N; CompType: Interface IC; High-Reliability: Y; DatasheetVersion: Mar-2000; PackageVersion: revJ, Aug-1995; PackageReference: M16A; PackageDescription: Molded Package, SO, .150in Wide, 16 Lead; RoHS: N; PinCount: 16; Code_JEDEC: MS-012-AC; Code_IPC: SOIC127P600-16; ComponentLink1Description: Manufacturer URL; ComponentLink1URL: http://www.national.com/; ComponentLink2Description: DS26LV31T Datasheet; ComponentLink2URL: http://www.national.com/ds/DS/DS26LV31T.pdf; ComponentLink3Description: DS26LV31T Web Page; ComponentLink3URL: http://www.national.com/pf/DS/DS26LV31T.html; ComponentLink4Description: M16A Package Page; ComponentLink4URL: http://www.national.com/packaging/folders/m16a.html
footprint M16A_N (SOIC, 16-Leads, Body 9.9x3.9mm, Pitch 1.27mm, IPC Medium Density)
footprint M16A_L (SOIC, 16-Leads, Body 9.9x3.9mm, Pitch 1.27mm, IPC High Density)
footprint M16A_M (SOIC, 16-Leads, Body 9.9x3.9mm, Pitch 1.27mm, IPC Low Density)
pins: 1 DI1 (in), 2 DO1+ (out), 3 DO1- (out), 4 EN (in), 5 DO2- (out), 6 DO2+ (out), 7 DI2 (in), 8 GND (power), 9 DI3 (in), 10 DO3+ (out), 11 DO3- (out), 12 ~{EN} (in), 13 DO4- (out), 14 DO4+ (out), 15 DI4 (in), 16 VCC (power)

## DS26LV31TM/NOPB
designator U?
3V Enhanced CMOS Quad Differential Line Driver, 16-pin Narrow SOIC, Pb-Free; PartNumber: DS26LV31TM/NOPB; Manufacturer: National Semiconductor; PackageTopMarking: NSUZXYTTE#*DS26LV31*TM; PowerWise: N; CompType: Interface IC; High-Reliability: Y; DatasheetVersion: Mar-2000; PackageVersion: revJ, Aug-1995; PackageReference: M16A; PackageDescription: Molded Package, SO, .150in Wide, 16 Lead; RoHS: Y; PinCount: 16; Code_JEDEC: MS-012-AC; Code_IPC: SOIC127P600-16; ComponentLink1Description: Manufacturer URL; ComponentLink1URL: http://www.national.com/; ComponentLink2Description: DS26LV31T Datasheet; ComponentLink2URL: http://www.national.com/ds/DS/DS26LV31T.pdf; ComponentLink3Description: DS26LV31T Web Page; ComponentLink3URL: http://www.national.com/pf/DS/DS26LV31T.html; ComponentLink4Description: M16A Package Page; ComponentLink4URL: http://www.national.com/packaging/folders/m16a.html
footprint M16A_N (SOIC, 16-Leads, Body 9.9x3.9mm, Pitch 1.27mm, IPC Medium Density)
footprint M16A_L (SOIC, 16-Leads, Body 9.9x3.9mm, Pitch 1.27mm, IPC High Density)
footprint M16A_M (SOIC, 16-Leads, Body 9.9x3.9mm, Pitch 1.27mm, IPC Low Density)
pins: 1 DI1 (in), 2 DO1+ (out), 3 DO1- (out), 4 EN (in), 5 DO2- (out), 6 DO2+ (out), 7 DI2 (in), 8 GND (power), 9 DI3 (in), 10 DO3+ (out), 11 DO3- (out), 12 ~{EN} (in), 13 DO4- (out), 14 DO4+ (out), 15 DI4 (in), 16 VCC (power)